# Altium schematic symbol library 395111009.SchLib: 1 symbol
Pins are listed as number, name and electrical type; pins without a type are passive.

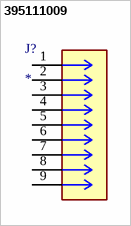
[diagram p0: symbol 395111009]

## 395111009
designator J?
MP: 395111009; Package: None; Price: None; Value: *; Availability: Unavailable
footprint CONN_39511-1009_MOL
pins: 1, 2, 3, 4, 5, 6, 7, 8, 9